# Altium schematic symbol library 80-BabyCarBatControl_SCH.SchLib: 4 symbols
Pins are listed as number, name and electrical type; pins without a type are passive.

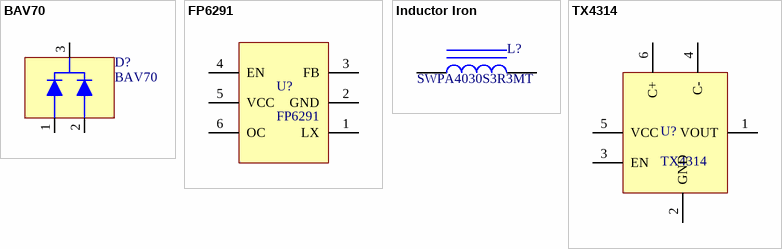
[diagram p0: symbols BAV70 to TX4314]

## BAV70
designator D?
footprint SOT-23-3
pins: 1 A1, 2 A2, 3 K

## FP6291
designator U?
DC-DC升压控制芯片
footprint SOT-23-6
pins: 1 LX, 2 GND, 3 FB, 4 EN, 5 VCC, 6 OC

## Inductor Iron
designator L?, comment SWPA4030S3R3MT
功率电感
footprint IND-SMD_L4.0-W4.0_SMNR4012
pins: 1, 2

## TX4314
designator U?
DC-DC升压电荷泵
footprint SOT-23-6
pins: 1 VOUT, 2 GND, 3 EN, 4 C-, 5 VCC, 6 C+